# EAGLE library part GL824 (library IC)
Genesys GL824 USB 2.0 On-The-Go Controller in a PQ208 package
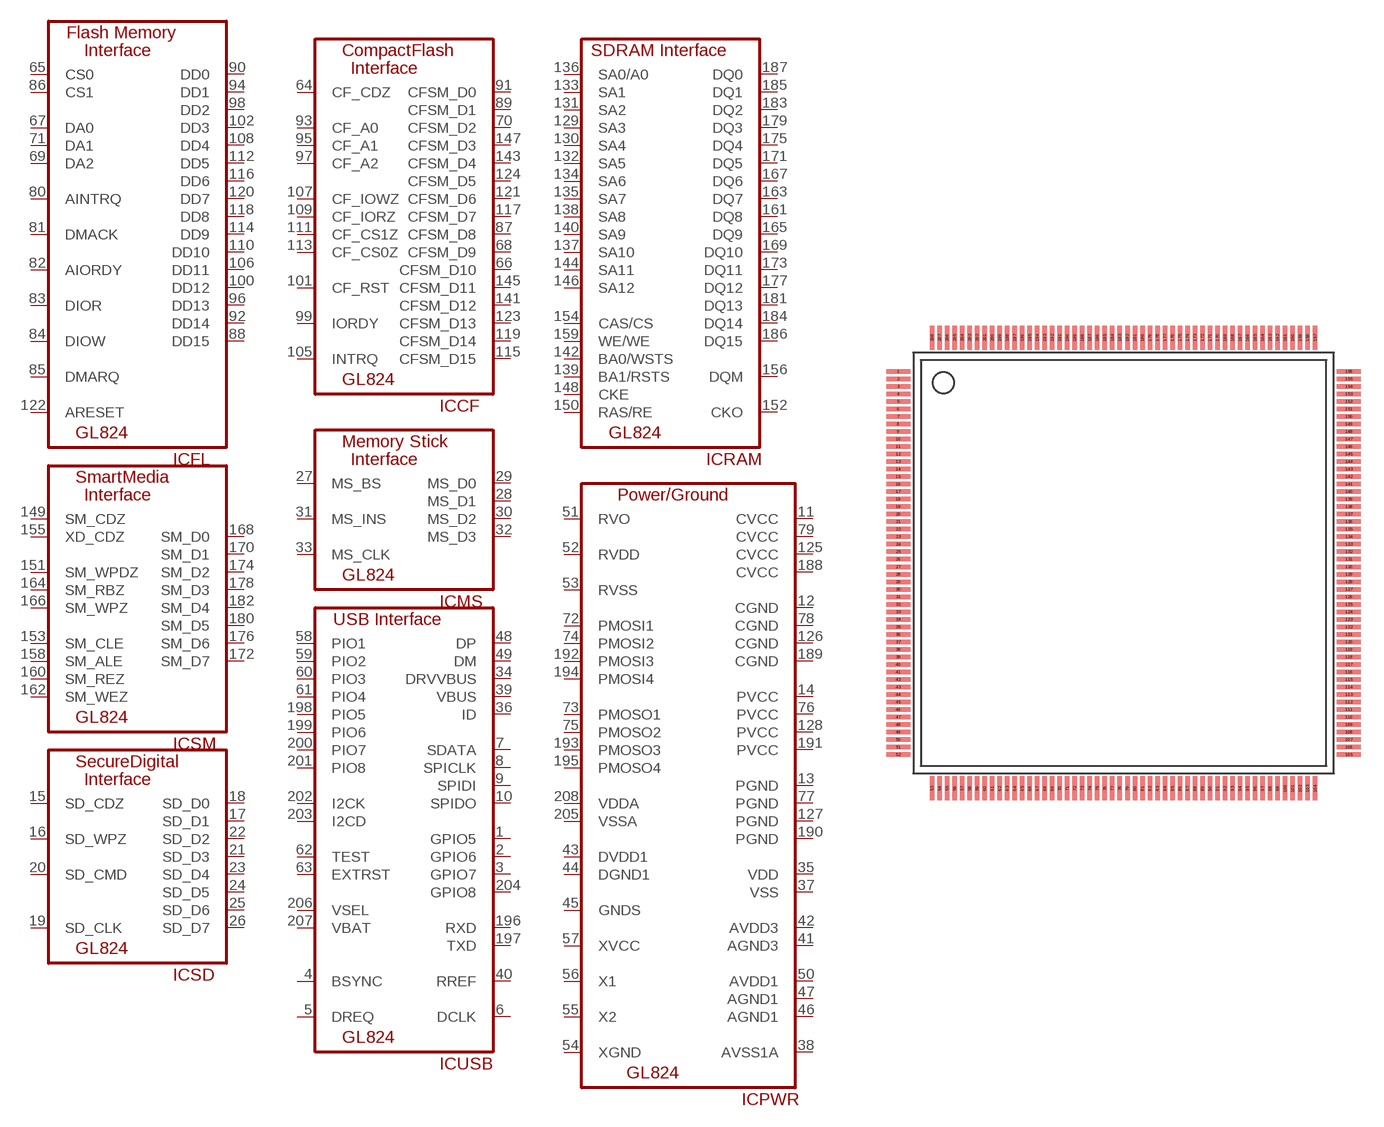
[diagram p87: symbol with the pads of PQ208; footprint PQ208]

Designator prefix IC; gates CF=GL824-CF FL=GL824-FL SM=GL824-SM SD=GL824-SD MS=GL824-MS USB=GL824-USB RAM=GL824-RAM PWR=GL824-PWR

## GL824-PQ208  [PQ208]
1  USB:GPIO5
2  USB:GPIO6
3  USB:GPIO7
4  USB:BSYNC
5  USB:DREQ
6  USB:DCLK  out
7  USB:SDATA
8  USB:SPICLK
9  USB:SPIDI
10  USB:SPIDO
11  PWR:CVCC  pwr
12  PWR:CGND  pwr
13  PWR:PGND  pwr
14  PWR:PVCC  pwr
15  SD:SD_CDZ
16  SD:SD_WPZ
17  SD:SD_D1
18  SD:SD_D0
19  SD:SD_CLK  out
20  SD:SD_CMD
21  SD:SD_D3
22  SD:SD_D2
23  SD:SD_D4
24  SD:SD_D5
25  SD:SD_D6
26  SD:SD_D7
27  MS:MS_BS  out
28  MS:MS_D1
29  MS:MS_D0
30  MS:MS_D2
31  MS:MS_INS
32  MS:MS_D3
33  MS:MS_CLK  out
34  USB:DRVVBUS  out
35  PWR:VDD  pwr
36  USB:ID  in
37  PWR:VSS  pwr
38  PWR:AVSS1A  pwr
39  USB:VBUS  in
40  USB:RREF
41  PWR:AGND3  pwr
42  PWR:AVDD3  pwr
43  PWR:DVDD1  pwr
44  PWR:DGND1  pwr
45  PWR:GNDS  out
46  PWR:AGND1  pwr
47  PWR:AGND1  pwr
48  USB:DP
49  USB:DM
50  PWR:AVDD1  pwr
51  PWR:RVO  pwr
52  PWR:RVDD  pwr
53  PWR:RVSS  pwr
54  PWR:XGND  pwr
55  PWR:X2  pwr
56  PWR:X1  pwr
57  PWR:XVCC  pwr
58  USB:PIO1
59  USB:PIO2
60  USB:PIO3
61  USB:PIO4
62  USB:TEST  in
63  USB:EXTRST  in
64  CF:CF_CDZ
65  FL:CS0  out
66  CF:CFSM_D10
67  FL:DA0  out
68  CF:CFSM_D9
69  FL:DA2  out
70  CF:CFSM_D2
71  FL:DA1  out
72  PWR:PMOSI1  in
73  PWR:PMOSO1  out
74  PWR:PMOSI2  in
75  PWR:PMOSO2  out
76  PWR:PVCC  pwr
77  PWR:PGND  pwr
78  PWR:CGND  pwr
79  PWR:CVCC  pwr
80  FL:AINTRQ  in
81  FL:DMACK  out
82  FL:AIORDY  in
83  FL:DIOR
84  FL:DIOW
85  FL:DMARQ  in
86  FL:CS1  out
87  CF:CFSM_D8
88  FL:DD15
89  CF:CFSM_D1
90  FL:DD0
91  CF:CFSM_D0
92  FL:DD14
93  CF:CF_A0  out
94  FL:DD1
95  CF:CF_A1  out
96  FL:DD13
97  CF:CF_A2  out
98  FL:DD2
99  CF:IORDY  in
100  FL:DD12
101  CF:CF_RST
102  FL:DD3
103  USB:NC  nc
104  USB:NC  nc
105  CF:INTRQ  in
106  FL:DD11
107  CF:CF_IOWZ  out
108  FL:DD4
109  CF:CF_IORZ  out
110  FL:DD10
111  CF:CF_CS1Z  out
112  FL:DD5
113  CF:CF_CS0Z  out
114  FL:DD9
115  CF:CFSM_D15
116  FL:DD6
117  CF:CFSM_D7
118  FL:DD8
119  CF:CFSM_D14
120  FL:DD7
121  CF:CFSM_D6
122  FL:ARESET  out
123  CF:CFSM_D13
124  CF:CFSM_D5
125  PWR:CVCC  pwr
126  PWR:CGND  pwr
127  PWR:PGND  pwr
128  PWR:PVCC  pwr
129  RAM:SA3  out
130  RAM:SA4  out
131  RAM:SA2  out
132  RAM:SA5  out
133  RAM:SA1  out
134  RAM:SA6  out
135  RAM:SA7  out
136  RAM:SA0/A0
137  RAM:SA10  out
138  RAM:SA8  out
139  RAM:BA1/RSTS  out
140  RAM:SA9  out
141  CF:CFSM_D12
142  RAM:BA0/WSTS  out
143  CF:CFSM_D4
144  RAM:SA11  out
145  CF:CFSM_D11
146  RAM:SA12  out
147  CF:CFSM_D3
148  RAM:CKE  out
149  SM:SM_CDZ
150  RAM:RAS/RE
151  SM:SM_WPDZ
152  RAM:CKO  out
153  SM:SM_CLE  out
154  RAM:CAS/CS
155  SM:XD_CDZ
156  RAM:DQM  out
157  USB:NC  nc
158  SM:SM_ALE  out
159  RAM:WE/WE
160  SM:SM_REZ  out
161  RAM:DQ8
162  SM:SM_WEZ  out
163  RAM:DQ7
164  SM:SM_RBZ
165  RAM:DQ9
166  SM:SM_WPZ
167  RAM:DQ6
168  SM:SM_D0
169  RAM:DQ10
170  SM:SM_D1
171  RAM:DQ5
172  SM:SM_D7
173  RAM:DQ11
174  SM:SM_D2
175  RAM:DQ4
176  SM:SM_D6
177  RAM:DQ12
178  SM:SM_D3
179  RAM:DQ3
180  SM:SM_D5
181  RAM:DQ13
182  SM:SM_D4
183  RAM:DQ2
184  RAM:DQ14
185  RAM:DQ1
186  RAM:DQ15
187  RAM:DQ0
188  PWR:CVCC  pwr
189  PWR:CGND  pwr
190  PWR:PGND  pwr
191  PWR:PVCC  pwr
192  PWR:PMOSI3  in
193  PWR:PMOSO3  out
194  PWR:PMOSI4  in
195  PWR:PMOSO4  out
196  USB:RXD
197  USB:TXD  out
198  USB:PIO5
199  USB:PIO6
200  USB:PIO7
201  USB:PIO8
202  USB:I2CK
203  USB:I2CD
204  USB:GPIO8
205  PWR:VSSA  pwr
206  USB:VSEL  in
207  USB:VBAT  in
208  PWR:VDDA  pwr

## Footprint PQ208 (pad centres in mm)
smd 1.6 x 0.3: 1 -15,12.75; 2 -15,12.25; 3 -15,11.75; 4 -15,11.25; 5 -15,10.75; 6 -15,10.25; 7 -15,9.75; 8 -15,9.25; 9 -15,8.75; 10 -15,8.25; 11 -15,7.75; 12 -15,7.25; 13 -15,6.75; 14 -15,6.25; 15 -15,5.75; 16 -15,5.25; 17 -15,4.75; 18 -15,4.25; 19 -15,3.75; 20 -15,3.25; 21 -15,2.75; 22 -15,2.25; 23 -15,1.75; 24 -15,1.25; 25 -15,0.75; 26 -15,0.25; 27 -15,-0.25; 28 -15,-0.75; 29 -15,-1.25; 30 -15,-1.75; 31 -15,-2.25; 32 -15,-2.75; 33 -15,-3.25; 34 -15,-3.75; 35 -15,-4.25; 36 -15,-4.75; 37 -15,-5.25; 38 -15,-5.75; 39 -15,-6.25; 40 -15,-6.75; 41 -15,-7.25; 42 -15,-7.75; 43 -15,-8.25; 44 -15,-8.75; 45 -15,-9.25; 46 -15,-9.75; 47 -15,-10.25; 48 -15,-10.75; 49 -15,-11.25; 50 -15,-11.75; 51 -15,-12.25; 52 -15,-12.75; 105 15,-12.75; 106 15,-12.25; 107 15,-11.75; 108 15,-11.25; 109 15,-10.75; 110 15,-10.25; 111 15,-9.75; 112 15,-9.25; 113 15,-8.75; 114 15,-8.25; 115 15,-7.75; 116 15,-7.25; 117 15,-6.75; 118 15,-6.25; 119 15,-5.75; 120 15,-5.25; 121 15,-4.75; 122 15,-4.25; 123 15,-3.75; 124 15,-3.25; 125 15,-2.75; 126 15,-2.25; 127 15,-1.75; 128 15,-1.25; 129 15,-0.75; 130 15,-0.25; 131 15,0.25; 132 15,0.75; 133 15,1.25; 134 15,1.75; 135 15,2.25; 136 15,2.75; 137 15,3.25; 138 15,3.75; 139 15,4.25; 140 15,4.75; 141 15,5.25; 142 15,5.75; 143 15,6.25; 144 15,6.75; 145 15,7.25; 146 15,7.75; 147 15,8.25; 148 15,8.75; 149 15,9.25; 150 15,9.75; 151 15,10.25; 152 15,10.75; 153 15,11.25; 154 15,11.75; 155 15,12.25; 156 15,12.75
smd 0.3 x 1.6: 53 -12.75,-15; 54 -12.25,-15; 55 -11.75,-15; 56 -11.25,-15; 57 -10.75,-15; 58 -10.25,-15; 59 -9.75,-15; 60 -9.25,-15; 61 -8.75,-15; 62 -8.25,-15; 63 -7.75,-15; 64 -7.25,-15; 65 -6.75,-15; 66 -6.25,-15; 67 -5.75,-15; 68 -5.25,-15; 69 -4.75,-15; 70 -4.25,-15; 71 -3.75,-15; 72 -3.25,-15; 73 -2.75,-15; 74 -2.25,-15; 75 -1.75,-15; 76 -1.25,-15; 77 -0.75,-15; 78 -0.25,-15; 79 0.25,-15; 80 0.75,-15; 81 1.25,-15; 82 1.75,-15; 83 2.25,-15; 84 2.75,-15; 85 3.25,-15; 86 3.75,-15; 87 4.25,-15; 88 4.75,-15; 89 5.25,-15; 90 5.75,-15; 91 6.25,-15; 92 6.75,-15; 93 7.25,-15; 94 7.75,-15; 95 8.25,-15; 96 8.75,-15; 97 9.25,-15; 98 9.75,-15; 99 10.25,-15; 100 10.75,-15; 101 11.25,-15; 102 11.75,-15; 103 12.25,-15; 104 12.75,-15; 157 12.75,15; 158 12.25,15; 159 11.75,15; 160 11.25,15; 161 10.75,15; 162 10.25,15; 163 9.75,15; 164 9.25,15; 165 8.75,15; 166 8.25,15; 167 7.75,15; 168 7.25,15; 169 6.75,15; 170 6.25,15; 171 5.75,15; 172 5.25,15; 173 4.75,15; 174 4.25,15; 175 3.75,15; 176 3.25,15; 177 2.75,15; 178 2.25,15; 179 1.75,15; 180 1.25,15; 181 0.75,15; 182 0.25,15; 183 -0.25,15; 184 -0.75,15; 185 -1.25,15; 186 -1.75,15; 187 -2.25,15; 188 -2.75,15; 189 -3.25,15; 190 -3.75,15; 191 -4.25,15; 192 -4.75,15; 193 -5.25,15; 194 -5.75,15; 195 -6.25,15; 196 -6.75,15; 197 -7.25,15; 198 -7.75,15; 199 -8.25,15; 200 -8.75,15; 201 -9.25,15; 202 -9.75,15; 203 -10.25,15; 204 -10.75,15; 205 -11.25,15; 206 -11.75,15; 207 -12.25,15; 208 -12.75,15